# Altium footprint library SF16_POWER.PcbLib: 36 footprints (part 1 of 3)
Each footprint in its own frame and in the unit in brackets; x right, y up, seen from the top. Pads: shape width x height; smd on the part's side, far side on the other; paste and mask are expansions set on the pad; w line width, h text height; cw(c..) or ccw(c..) is an arc to the next point about the centre after c.
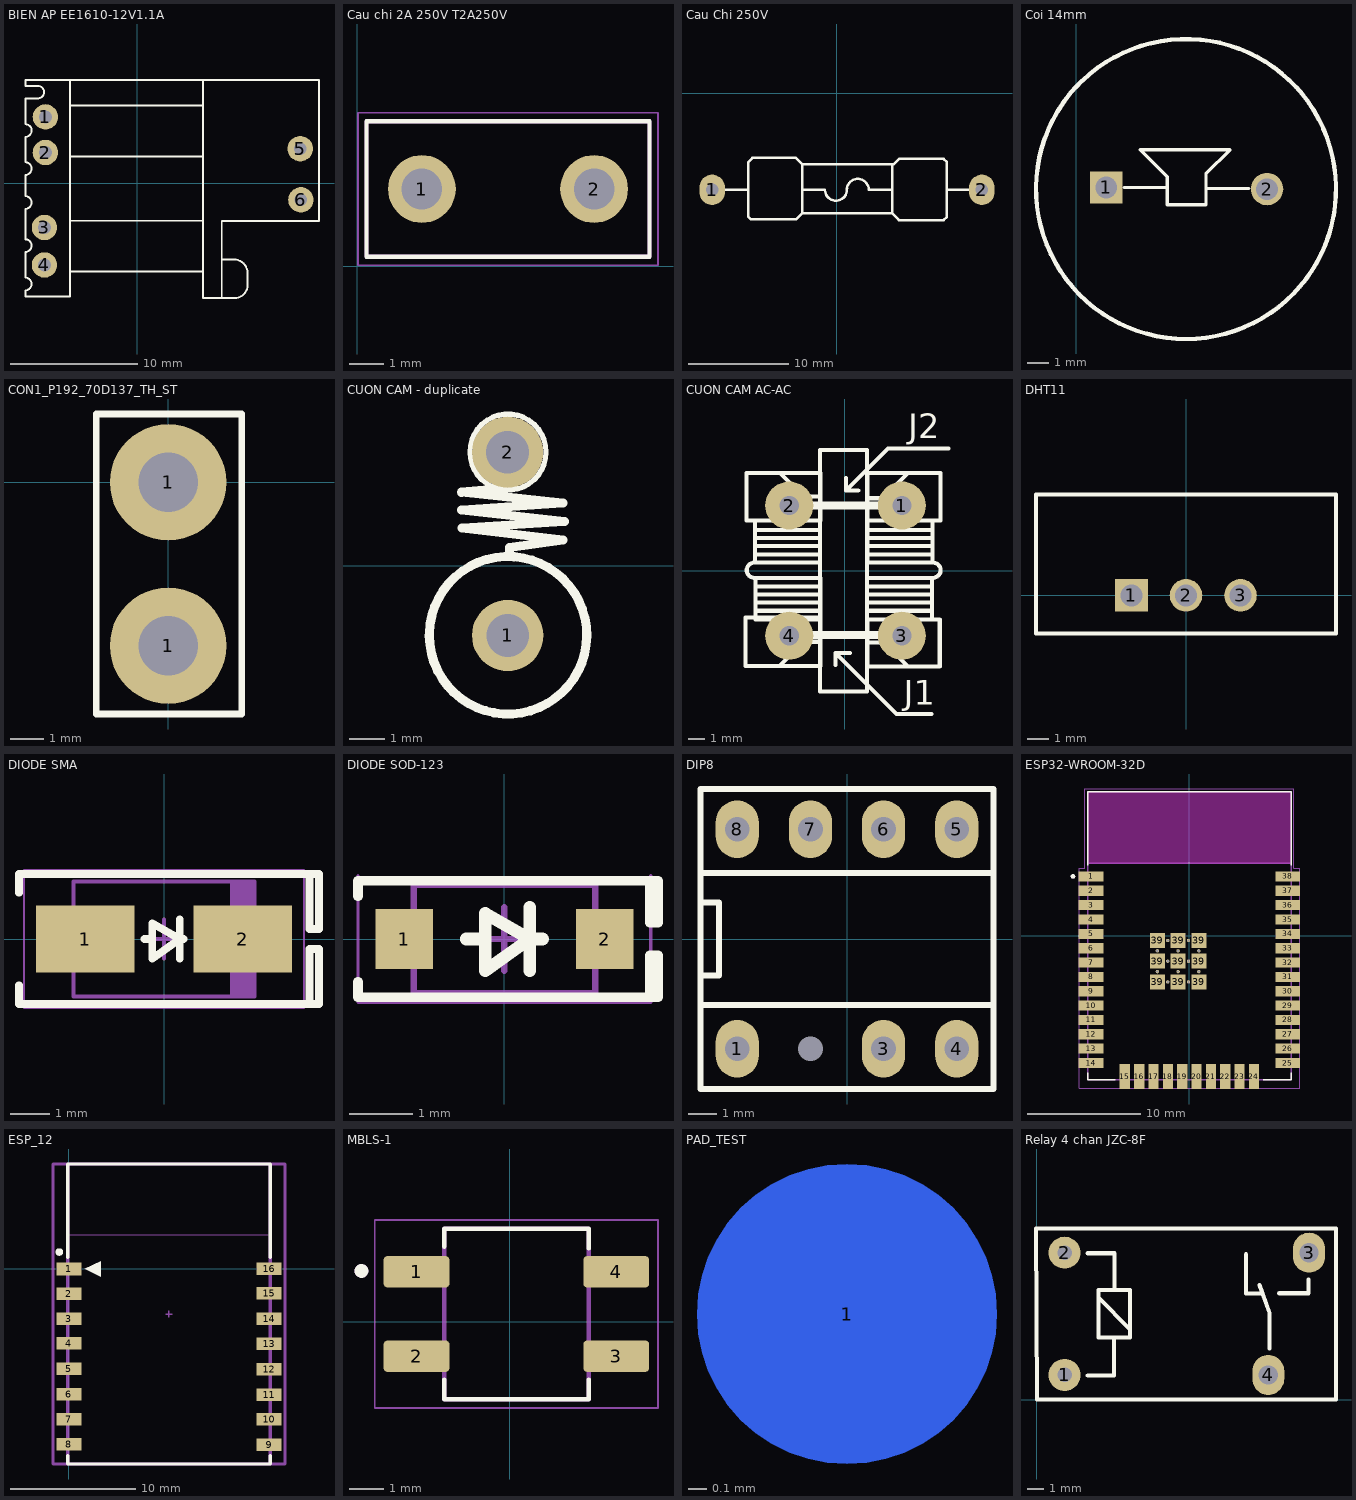
[diagram p0: the footprints below, top view; thin cyan lines are the x and y axes]

## BIEN AP EE1610-12V1.1A [mm]
height 1.75
pads (6):
  round 2 hole 1: 1(-7.225,5.2) 2(-7.225,2.4) 3(-7.3,-3.5) 4(-7.3,-6.45) 5(12.825,2.7) 6(12.875,-1.325)
Top Overlay:
  lines w0.15: -8.806,-8.446 -8.806,-8.934 ; -8.806,-7.451 -8.806,-5.424 ccw(c-8.806,-4.927) -8.806,-4.43 -8.806,-2.032 ccw(c-8.806,-1.535) -8.806,-1.038 -8.806,0.636 ccw(c-8.806,1.133) -8.806,1.63 -8.806,3.632 ccw(c-8.806,4.129) -8.781,4.625 -8.781,6.651 -7.833,6.651 ccw(c-7.833,7.148) -7.833,7.645 -8.781,7.645 -8.781,8.108 ; -8.803,-8.442 ccw(c-8.803,-7.945) -8.803,-7.448 ; -7.416,-8.934 -8.806,-8.934 ; -7.416,8.108 -8.781,8.108 ; -5.313,-2.972 5.162,-2.972 ; -5.295,6.11 5.162,6.11 ; -5.293,2.09 5.171,2.09 ; -5.288,8.101 -5.288,-8.934 -8.806,-8.934 ; -5.273,-6.959 5.162,-6.959 ; 5.162,8.05 5.162,-6.983 5.162,-9.051 7.674,-9.051 ccw(c7.674,-8.05) 8.675,-8.05 8.675,-7.078 ccw(c7.615,-7.078) 7.615,-6.018 6.698,-6.018 cw(c6.698,-6.011) 6.691,-6.011 ; 6.604,-9.042 ccw(c6.604,-8.996) 6.65,-8.996 6.65,-3 14.301,-3 14.301,8.05 ; 14.301,8.108 -8.781,8.108

## Cau chi 2A 250V T2A250V [mm]
height 1.27
pads (2):
  round 2 hole 1.2: 1(1.905,2.286) 2(6.985,2.286)
Top Overlay:
  lines w0.127: 0.27,0.286 0.27,4.286 8.62,4.286 8.62,0.286 0.27,0.286
Mechanical 13:
  lines w0.127: 0.27,0.286 8.62,0.286 8.62,4.286 0.27,4.286 0.27,0.286
Mechanical 15:
  lines w0.05: 0.02,0.036 0.02,4.536 8.87,4.536 8.87,0.036 0.02,0.036
3D body "0697W2000-02.STEP": height 8.1, standoff -11, extent 0.27,0.318 8.62,4.318

## Cau Chi 250V [mm] "De Fuse"
pads (2):
  oval 2.54x3.048 hole 1.27: 1(-12.475,-9.7) 2(14.55,-9.7)
Top Overlay:
  lines w0.254: -12.475,-9.7 -8.923,-9.7 ; -3.431,-9.7 -1.171,-9.7 ccw(c-0.075,-9.7) 1.021,-9.699 cw(c2.118,-9.699) 3.214,-9.698 5.562,-9.698 ; -3.428,-11.983 -3.428,-12.029 ; 5.545,-12.029 -3.428,-12.029 ; 5.579,-7.186 5.579,-12.062 6.249,-12.733 10.723,-12.733 11.049,-12.407 11.049,-6.918 10.723,-6.592 6.269,-6.592 5.703,-7.158 -3.428,-7.158 ; 11.087,-9.7 14.55,-9.7 ; -3.428,-12.029 -3.428,-7.158 ; -3.428,-12.029 -4.059,-12.66 -8.582,-12.66 -8.879,-12.362 -8.879,-6.951 -8.435,-6.507 -4.079,-6.507 -3.428,-7.158
3D body "SW3dPS-Fuse Small 1A.STEP": height 9.41, standoff 4.31, extent -8.644,-12.203 11.056,-7.103

## Coi 14mm [mm]
height 1.75
pads (2):
  rect 1.5x1.5 hole 1: 1(1.4,-13.675)
  round 1.5 hole 1: 2(8.825,-13.75)
Top Overlay:
  lines w0.15: 2.21,-13.678 4.205,-13.678 ; 6.005,-13.724 7.984,-13.725 ; 2.962,-11.928 4.21,-13.177 4.21,-14.468 6.002,-14.468 6.002,-13.045 7.118,-11.928 2.962,-11.928
  lines w0.203: 10.167,-9.034 ccw(c5.079,-13.745) 10.173,-9.039

## CON1_P192_70D137_TH_ST [mm] "SOLDER TABS"
height 7.9
pads (2):
  round 3.5 hole 1.778: 1(0,-4.9) 1(0,0)
Top Overlay:
  lines w0.2: -2.159,-6.95 2.21,-6.95 2.21,2.05 -2.159,2.05 -2.159,-6.95
3D body "77880.stp": height 10.48, standoff -3.54, extent -1.618,-6.312 1.468,1.612

## CUON CAM - duplicate [mm] "Dang cam giong tro"
height 1.75
pads (2):
  round 2 hole 1.2: 1(8.765,-1.961) 2(8.763,3.175)
Top Overlay:
  circle w0.15: c8.773,3.18 r1.066
  lines w0.254: 6.566,-1.966 ccw(c8.773,-1.955) 6.567,-1.9 ; 8.816,0.263 8.816,0.503 10.315,0.72 7.481,1.056 10.361,1.233 7.464,1.558 10.31,1.746 7.464,2.054 8.901,2.191
3D body "User Library-1W right 100mil.sldprt": height 13.57, standoff -3.5, extent 6.868,-3.514 10.668,1.228

## CUON CAM AC-AC [mm] "Cuon Cam 4.5x5"
height 2.29
pads (4):
  round 3 hole 1.2: 1(3.556,4.064) 2(-3.48,4.064) 3(3.556,-4.064) 4(-3.48,-4.064)
Top Overlay:
  lines w0.254: -5.626,0.501 ccw(c-5.657,0.025) -5.61,-0.449 ; -5.626,1.016 -1.562,1.016 ; -5.626,1.524 -1.562,1.524 ; -5.626,2.032 -1.562,2.032 ; -5.626,2.54 -1.562,2.54 ; -5.593,-2.509 -1.529,-2.509 ; -5.593,-2.001 -1.529,-2.001 ; -5.593,-1.493 -1.529,-1.493 ; -5.593,-0.985 -1.529,-0.985 ; -4.101,-5.964 -2.582,-4.445 -1.524,-4.445 ; -4.064,6.096 -2.585,4.617 -1.524,4.617 ; -0.579,-5.898 -0.579,-5.153 ; 0.072,5.77 0.072,5.013 ; 0.308,-5.153 -0.579,-5.153 ; 0.829,5.013 0.072,5.013 ; 1.365,-2.509 5.429,-2.509 ; 1.365,-2.001 5.429,-2.001 ; 1.365,-1.493 5.429,-1.493 ; 1.365,-0.985 5.429,-0.985 ; 1.387,4.518 2.359,4.518 3.937,6.096 ; 1.397,-4.478 2.444,-4.478 3.919,-5.953 ; 1.397,1.016 5.461,1.016 ; 1.397,1.524 5.461,1.524 ; 1.397,2.032 5.461,2.032 ; 1.397,2.54 5.461,2.54 ; 5.416,-8.955 3.224,-8.955 -0.579,-5.153 ; 5.445,-0.449 ccw(c5.493,0.025) 5.461,0.501 ; 6.477,7.62 2.68,7.62 0.072,5.013 ; 1.397,3.139 5.969,3.139 5.969,6.096 1.397,6.096 1.397,3.139 ; 1.397,3.139 5.461,3.139 5.461,0.508 1.397,0.508 1.397,3.139 ; -6.223,-5.969 -1.524,-5.969 -1.524,-2.921 -6.223,-2.921 -6.223,-5.969 ; -6.139,3.139 -6.139,6.096 -1.524,6.096 -1.524,3.139 -6.139,3.139 ; -5.626,0.508 -1.562,0.508 -1.562,3.139 -5.626,3.139 -5.626,0.508 ; -5.593,-3.048 -5.593,-0.449 -1.529,-0.449 -1.529,-3.048 -5.593,-3.048 ; -1.562,-7.537 1.369,-7.537 1.369,7.544 -1.562,7.544 -1.562,-7.537 ; 1.365,-3.048 5.429,-3.048 5.429,-0.449 1.365,-0.449 1.365,-3.048 ; 1.397,-5.998 5.918,-5.998 5.918,-3.048 1.397,-3.048 1.397,-5.998
  lines w0.5: -2.709,-4.011 2.592,-4.012 ; -2.634,4.065 2.667,4.064
  text "J2" at 3.937,8.255 h1.52
  text "J1" at 3.683,-8.382 h1.52
Mechanical 1:
  lines w0.254: 4.172,3.91 cw(c3.556,4.064) 4.191,4.064
3D body "@_AA5;L   UU9LFNP-B-B222,   SUMIDA.STEP": height 16.77, standoff -3.5, extent -5.392,-7.747 5.608,7.753

## DHT11 [mm] "DHT11"
height 2.5
pads (3):
  rect 1.52x1.52 hole 1.02: 1(-2.54,0)
  round 1.52 hole 1.02: 2(0,0) 3(2.54,0)
Top Overlay:
  lines w0.2: -6.985,-1.778 6.985,-1.778 6.985,4.699 -6.985,4.699 -6.985,-1.778
3D body "DHT11 module.STEP": height 29.5, standoff -5.55, extent -7.015,-1.801 6.985,4.699

## DIODE SMA [mm] "SMA"
height 2.4
pads (2):
  rect 2.5x1.7 smd: 1(-2,0) 2(2,0)
Top Overlay:
  lines w0.2: -3.683,-1.175 -3.683,-1.651 3.937,-1.651 3.937,-0.254 3.699,-0.254 3.699,-1.651 ; -3.683,1.175 -3.683,1.651 3.937,1.651 3.937,0.254 3.693,0.254 3.693,1.651 ; -0.5,0 -0.3,0 ; 0.4,-0.5 0.4,0.5 ; 0.5,0 0.4,0 ; 0.4,0 -0.3,0.4 -0.3,-0.5 0.4,0
Mechanical 13:
  rectangle: 1.681,-1.46 2.3,1.46
  lines w0.1: -2.3,-1.46 -2.3,1.46 2.3,1.46 2.3,-1.46 -2.3,-1.46
Mechanical 15:
  lines w0.05: -3.556,-1.75 -3.556,1.75 3.556,1.75 3.556,-1.75 -3.556,-1.75
  lines w0.1: -0.5,0 0.5,0 ; 0,-0.5 0,0.5
3D body "SMA.STEP": height 2.4, standoff 0, extent -2.6,-1.375 2.6,1.375

## DIODE SOD-123 [mm] "SOD-123"
height 1.35
pads (2):
  rect 0.9x0.95 smd: 1(-1.575,0) 2(1.575,0)
Top Overlay:
  lines w0.15: -2.3,-0.675 -2.3,-0.916 2.286,-0.916 ; -2.3,0.675 -2.3,0.916 2.286,0.916 ; 2.286,-0.916 2.413,-0.916 2.413,-0.254 2.286,-0.254 2.286,-0.916 ; 2.286,0.916 2.286,0.254 2.413,0.254 2.413,0.916 2.286,0.916
  lines w0.2: -0.6,0 -0.3,0 ; 0.4,-0.5 0.4,0.5 ; 0.6,0 0.4,0 ; 0.4,0 -0.3,0.4 -0.3,-0.5 0.4,0
Mechanical 13:
  lines w0.1: -1.425,-0.85 -1.425,0.85 1.425,0.85 1.425,-0.85 -1.425,-0.85
Mechanical 15:
  lines w0.05: -2.3,0.9 2.3,0.9 ; -2.3,1 -2.3,-1 2.3,-1 2.3,1
  lines w0.1: -0.5,0 0.5,0 ; 0,-0.5 0,0.5
3D body "SOD-123.STEP": height 1.35, standoff 0, extent -1.864,-0.775 1.864,0.775

## DIP8 [mm] "W.300/L.400"
height 1.75
pads (8):
  oval 1.5x2 hole 0.864: 1(-3.81,-3.81) 3(1.27,-3.81) 4(3.81,-3.81) 5(3.81,3.81) 6(1.27,3.81) 7(-1.27,3.81) 8(-3.81,3.81)
  round 0 hole 0.864: 2(-1.27,-3.81)
Top Overlay:
  lines w0.203: -5.08,2.54 -5.08,-2.54 ; 5.08,-2.54 5.08,2.54 ; -5.08,-2.54 -5.08,-5.207 5.08,-5.207 5.08,2.54 ; -5.08,-2.54 -5.08,2.286 5.08,2.286 5.08,5.207 -5.08,5.207 -5.08,1.27 ; -5.08,-1.27 -5.08,1.27 ; -5.08,-1.27 -4.445,-1.27 ; -5.08,-1.27 -4.445,-1.27 ; -5.08,-1.27 -5.08,-2.286 5.08,-2.286 5.08,2.54 ; -5.08,1.27 -4.445,1.27 ; -5.08,1.27 -4.445,1.27 ; -4.445,-1.27 -4.445,1.27 ; -4.445,-1.27 -4.445,1.27
3D body "User Library-DIP8-300-metric.step": height 4.5, standoff -3.5, extent -5.4,-3.88 5.4,3.88

## ESP32-WROOM-32D [mm]
pads (59):
  rect 2.2x0.9 smd: 1(-8.7,5.26) 2(-8.7,3.99) 3(-8.7,2.72) 4(-8.7,1.45) 5(-8.7,0.18) 6(-8.7,-1.09) 7(-8.7,-2.36) 8(-8.7,-3.63) 9(-8.7,-4.9) 10(-8.7,-6.17) 11(-8.7,-7.44) 12(-8.7,-8.71) 13(-8.7,-9.98) 14(-8.7,-11.25) 25(8.7,-11.25) 26(8.7,-9.98) 27(8.7,-8.71) 28(8.7,-7.44) 29(8.7,-6.17) 30(8.7,-4.9) 31(8.7,-3.63) 32(8.7,-2.36) 33(8.7,-1.09) 34(8.7,0.18) 35(8.7,1.45) 36(8.7,2.72) 37(8.7,3.99) 38(8.7,5.26)
  rect 0.9x2.2 smd: 15(-5.715,-12.45) 16(-4.445,-12.45) 17(-3.175,-12.45) 18(-1.905,-12.45) 19(-0.635,-12.45) 20(0.635,-12.45) 21(1.905,-12.45) 22(3.175,-12.45) 23(4.445,-12.45) 24(5.715,-12.45)
  rect 1.33x1.33 smd: 39(-2.835,-4.075) 39(-2.835,-2.24) 39(-2.835,-0.405) 39(-1,-4.075) 39(-1,-2.24) 39(-1,-0.405) 39(0.835,-4.075) 39(0.835,-2.24) 39(0.835,-0.405)
  round 0.3 hole 0.2: 39(-2.835,-3.157) 39(-2.835,-1.322) 39(-1.917,-4.075) 39(-1.917,-2.24) 39(-1.917,-0.405) 39(-1,-3.157) 39(-1,-1.322) 39(-0.082,-4.075) 39(-0.082,-2.24) 39(-0.082,-0.405) 39(0.835,-3.157) 39(0.835,-1.322)
Top Overlay:
  circle w0.2: c-10.301,5.262 r0.1
  lines w0.127: -9,-12.1 -9,-12.75 -6.55,-12.75 ; -9,6.25 -9,12.75 9,12.75 9,6.25 ; 6.55,-12.75 9,-12.75 9,-12.1
Keep-Out Layer:
  region: 9,6.45 -9,6.45 -9,12.75 9,12.75
  region: 9,6.45 -9,6.45 -9,12.75 9,12.75
Mechanical 13:
  circle w0.2: c-10.301,5.262 r0.1
  lines w0.127: -9,6.45 -9,-12.75 9,-12.75 9,6.45 ; -9,6.45 -9,12.75 9,12.75 9,6.45 ; -9,6.45 9,6.45
  text "ANTENNA" at -6,9 h1.78
Mechanical 15:
  lines w0.05: -9.75,-13.5 9.75,-13.5 9.75,6 9.25,6 9.25,13 -9.25,13 -9.25,6 -9.75,6 -9.75,-13.5
3D body "ESP32-WROOM-32.STEP": height 3.2, standoff 0, extent -9,-12.623 9,12.877

## ESP_12 [mm] "ESP-12 Wi-Fi Module by AI-Thinker"
pads (16):
  rect 2x1 smd: 1(0,0) 2(0,-1.97) 3(0,-3.97) 4(0,-5.94) 5(0,-7.98) 6(0,-9.99) 7(0,-11.98) 8(0,-13.99) 9(16,-14.03) 10(16,-11.99) 11(16,-10.03) 12(16,-8.01) 13(16,-5.95) 14(16,-3.97) 15(16,-1.95) 16(16,0.03)
Top Overlay:
  circle w0.3: c-0.762,1.356 r0.15
  region: 1.27,0 2.54,-0.635 2.54,0.635
  lines w0.254: -0.084,-14.916 -0.084,-15.568 16.084,-15.568 16.084,-14.916 ; -0.084,0.916 -0.084,8.371 16.084,8.371 16.084,0.916
Mechanical 13:
  lines w0.051: -0.127,2.727 -0.127,8.382 16.129,8.382 16.129,2.727 -0.127,2.727
  lines w0.254: -0.084,-15.568 16.084,-15.568 16.084,8.371 -0.084,8.371 -0.084,-15.568
  text "CUTOUT POLYGON" at 0.127,7.366 h0.25
  text "ANTENNA AREA" at 0.127,7.874 h0.25
Mechanical 15:
  lines w0.1: 7.746,-3.598 8.254,-3.598 ; 8,-3.852 8,-3.344
  lines w0.254: -1.27,-15.568 -1.27,8.371 17.272,8.371 17.272,-15.568 -1.27,-15.568
3D body "ESP_12_E.STEP": height 2.75, standoff 0.04, extent 0.001,-15.491 16.001,8.509

## MBLS-1 [mm]
height 1.27
pads (4):
  rrect23% 1.91x0.91 smd: 1(-2.7,1.45) 2(-2.7,-1) 3(3.1,-1) 4(3.1,1.45)
Top Overlay:
  circle w0.2: c-4.3,1.475 r0.1
  lines w0.127: -1.9,-1.675 -1.9,-2.255 2.3,-2.255 2.3,-1.675 ; -1.9,2.175 -1.9,2.705 2.3,2.705 2.3,2.125
Mechanical 13:
  circle w0.2: c-4.3,1.475 r0.1
  lines w0.127: -1.9,-2.255 -1.9,2.705 2.3,2.705 2.3,-2.255 -1.9,-2.255
Mechanical 15:
  lines w0.05: -3.91,-2.505 4.31,-2.505 4.31,2.955 -3.91,2.955 -3.91,-2.505
3D body "step_temp.STEP": height 2.7, standoff 0, extent -3.15,-2.255 3.55,2.705

## PAD_TEST [mm]
pads (1):
  round 1.6 smd far side: 1(0.889,0.889)

## Relay 4 chan JZC-8F [mm]
height 1.75
pads (4):
  round 2 hole 0.9: 1(1.73,1.54) 2(1.73,9.16)
  oval 2x2.5 hole 1.2: 3(16.97,9.16) 4(14.43,1.54)
Top Overlay:
  lines w0.1: -0.052,10.675 18.65,10.675 18.65,0 0,0 -0.052,10.675
  lines w0.254: 3.175,1.511 4.806,1.511 4.806,3.866 ; 3.175,9.123 4.843,9.123 4.843,6.821 ; 3.831,6.37 5.801,4.383 ; 13.032,9.06 13.032,6.621 14.04,6.621 ; 13.892,7.149 14.517,5.374 14.517,3.175 ; 15.111,6.631 16.946,6.631 16.946,7.493 ; 4.843,6.821 3.832,6.821 3.832,3.861 5.818,3.861 5.818,6.821 4.843,6.821 ; -0.052,10.675 18.65,10.675 18.65,0 0,0 -0.052,10.675
3D body: height 0, standoff 0, extent 14.43,1.54 14.43,1.54
3D body: height 0, standoff 0, extent 16.97,9.16 16.97,9.16
3D body: height 0, standoff 0, extent 1.73,9.16 1.73,9.16
3D body: height 0, standoff 0, extent 1.73,1.54 1.73,1.54
3D body: height 15.5, standoff 0, extent 0.25,0.25 18.45,10.45